# Altium footprint library oscilliator.PcbLib: 1 footprints
Each footprint in its own frame and in the unit in brackets; x right, y up, seen from the top. Pads: shape width x height; smd on the part's side, far side on the other; paste and mask are expansions set on the pad; w line width, h text height; cw(c..) or ccw(c..) is an arc to the next point about the centre after c.
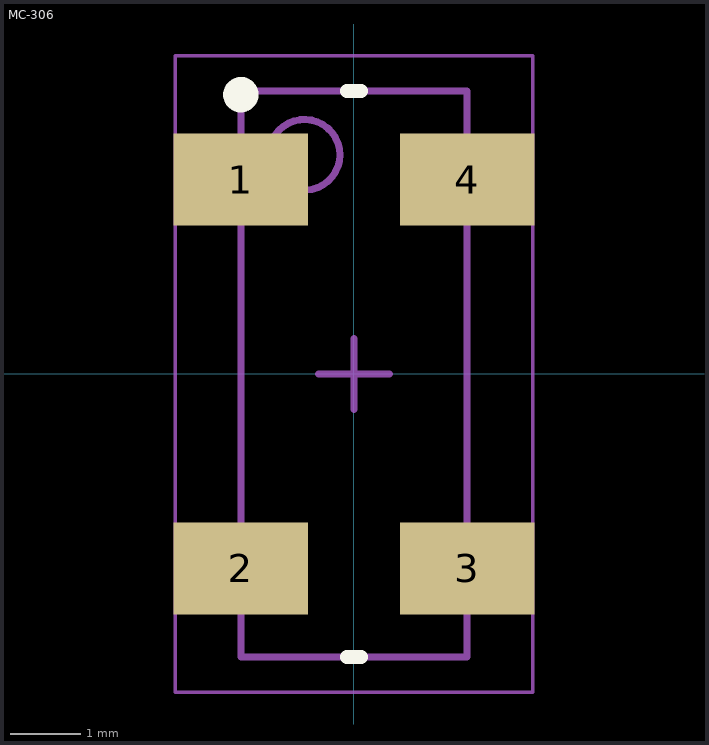
[diagram p0: the footprint, top view; thin cyan lines are the x and y axes]

## MC-306 [mm] "SOJ, 4-Leads, Body 8.00x3.75mm, Pitch 5.50mm, IPC Low Density"
height 2.54
pads (4):
  rect 1.9x1.3 smd: 1(-1.6,2.75) 2(-1.6,-2.75) 3(1.6,-2.75) 4(1.6,2.75)
Top Overlay:
  circle w0.25: c-1.6,3.95 r0.125
  lines w0.2: -0.1,-4 0.1,-4 ; -0.1,4 0.1,4
Mechanical 13:
  circle w0.1: c-0.7,3.1 r0.5
  lines w0.1: -1.6,-4 1.6,-4 1.6,4 -1.6,4 -1.6,-4
Mechanical 15:
  lines w0.05: -2.525,-4.5 2.525,-4.5 2.525,4.5 -2.525,4.5 -2.525,-4.5
  lines w0.1: -0.5,0 0.5,0 ; 0,-0.5 0,0.5
3D body: height 2.54, standoff 0.16, extent -1.6,-4 1.6,4